# EAGLE library part BGB203 (library IC)
http://search.digikey.com/scripts/DkSearch/dksus.dll?vendor=0&keywords=BGB203
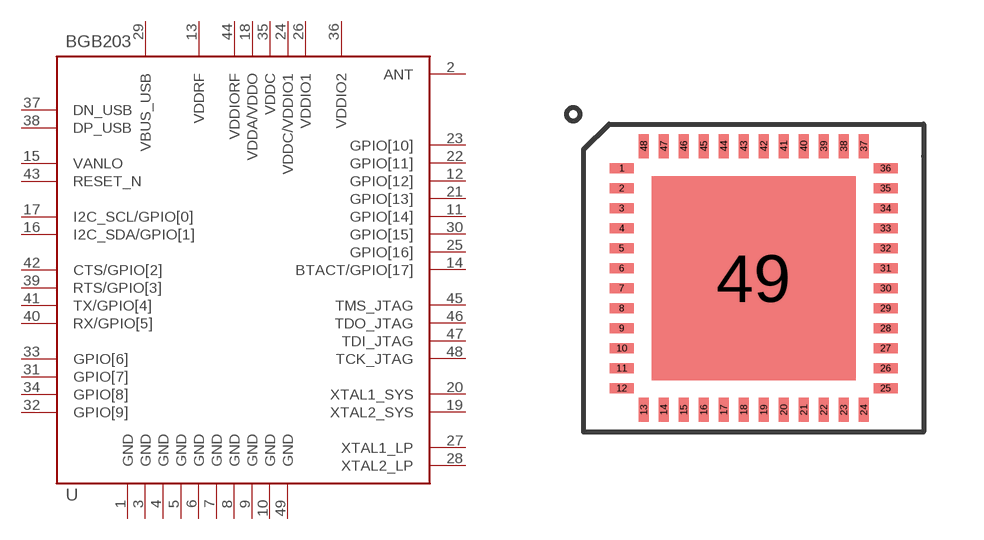
[diagram p36: symbol with the pads of HVQFN48; footprint HVQFN48]

Designator prefix U

## BGB203-HVQFN48  [HVQFN48]
1  GND
2  ANT
3  GND
4  GND
5  GND
6  GND
7  GND
8  GND
9  GND
10  GND
11  GPIO[14]
12  GPIO[12]
13  VDDRF
14  BTACT/GPIO[17]
15  VANLO
16  I2C_SDA/GPIO[1]
17  I2C_SCL/GPIO[0]
18  VDDA/VDDO
19  XTAL2_SYS
20  XTAL1_SYS
21  GPIO[13]
22  GPIO[11]
23  GPIO[10]
24  VDDC/VDDIO1
25  GPIO[16]
26  VDDIO1
27  XTAL1_LP
28  XTAL2_LP
29  VBUS_USB
30  GPIO[15]
31  GPIO[7]
32  GPIO[9]
33  GPIO[6]
34  GPIO[8]
35  VDDC
36  VDDIO2
37  DN_USB
38  DP_USB
39  RTS/GPIO[3]
40  RX/GPIO[5]
41  TX/GPIO[4]
42  CTS/GPIO[2]
43  RESET_N
44  VDDIORF
45  TMS_JTAG
46  TDO_JTAG
47  TDI_JTAG
48  TCK_JTAG
49  GND

## Footprint HVQFN48 (pad centres in mm)
smd 0.6 x 0.25: 1 0,0; 2 0,-0.5; 3 0,-1; 4 0,-1.5; 5 0,-2; 6 0,-2.5; 7 0,-3; 8 0,-3.5; 9 0,-4; 10 0,-4.5; 11 0,-5; 12 0,-5.5; 25 6.6,-5.5; 26 6.6,-5; 27 6.6,-4.5; 28 6.6,-4; 29 6.6,-3.5; 30 6.6,-3; 31 6.6,-2.5; 32 6.6,-2; 33 6.6,-1.5; 34 6.6,-1; 35 6.6,-0.5; 36 6.6,0
smd 0.25 x 0.6: 13 0.55,-6.045; 14 1.05,-6.045; 15 1.55,-6.045; 16 2.05,-6.045; 17 2.55,-6.045; 18 3.05,-6.045; 19 3.55,-6.045; 20 4.05,-6.045; 21 4.55,-6.045; 22 5.05,-6.045; 23 5.55,-6.045; 24 6.05,-6.045; 37 6.05,0.55; 38 5.55,0.55; 39 5.05,0.55; 40 4.55,0.55; 41 4.05,0.55; 42 3.55,0.55; 43 3.05,0.55; 44 2.55,0.55; 45 2.05,0.55; 46 1.55,0.55; 47 1.05,0.55; 48 0.55,0.55
smd 5.1 x 5.1: 49 3.3,-2.75